# Altium footprint library WISP_AD10.PcbLib: 95 footprints (part 4 of 6)
Each footprint in its own frame and in the unit in brackets; x right, y up, seen from the top. Pads: shape width x height; smd on the part's side, far side on the other; paste and mask are expansions set on the pad; w line width, h text height; cw(c..) or ccw(c..) is an arc to the next point about the centre after c.
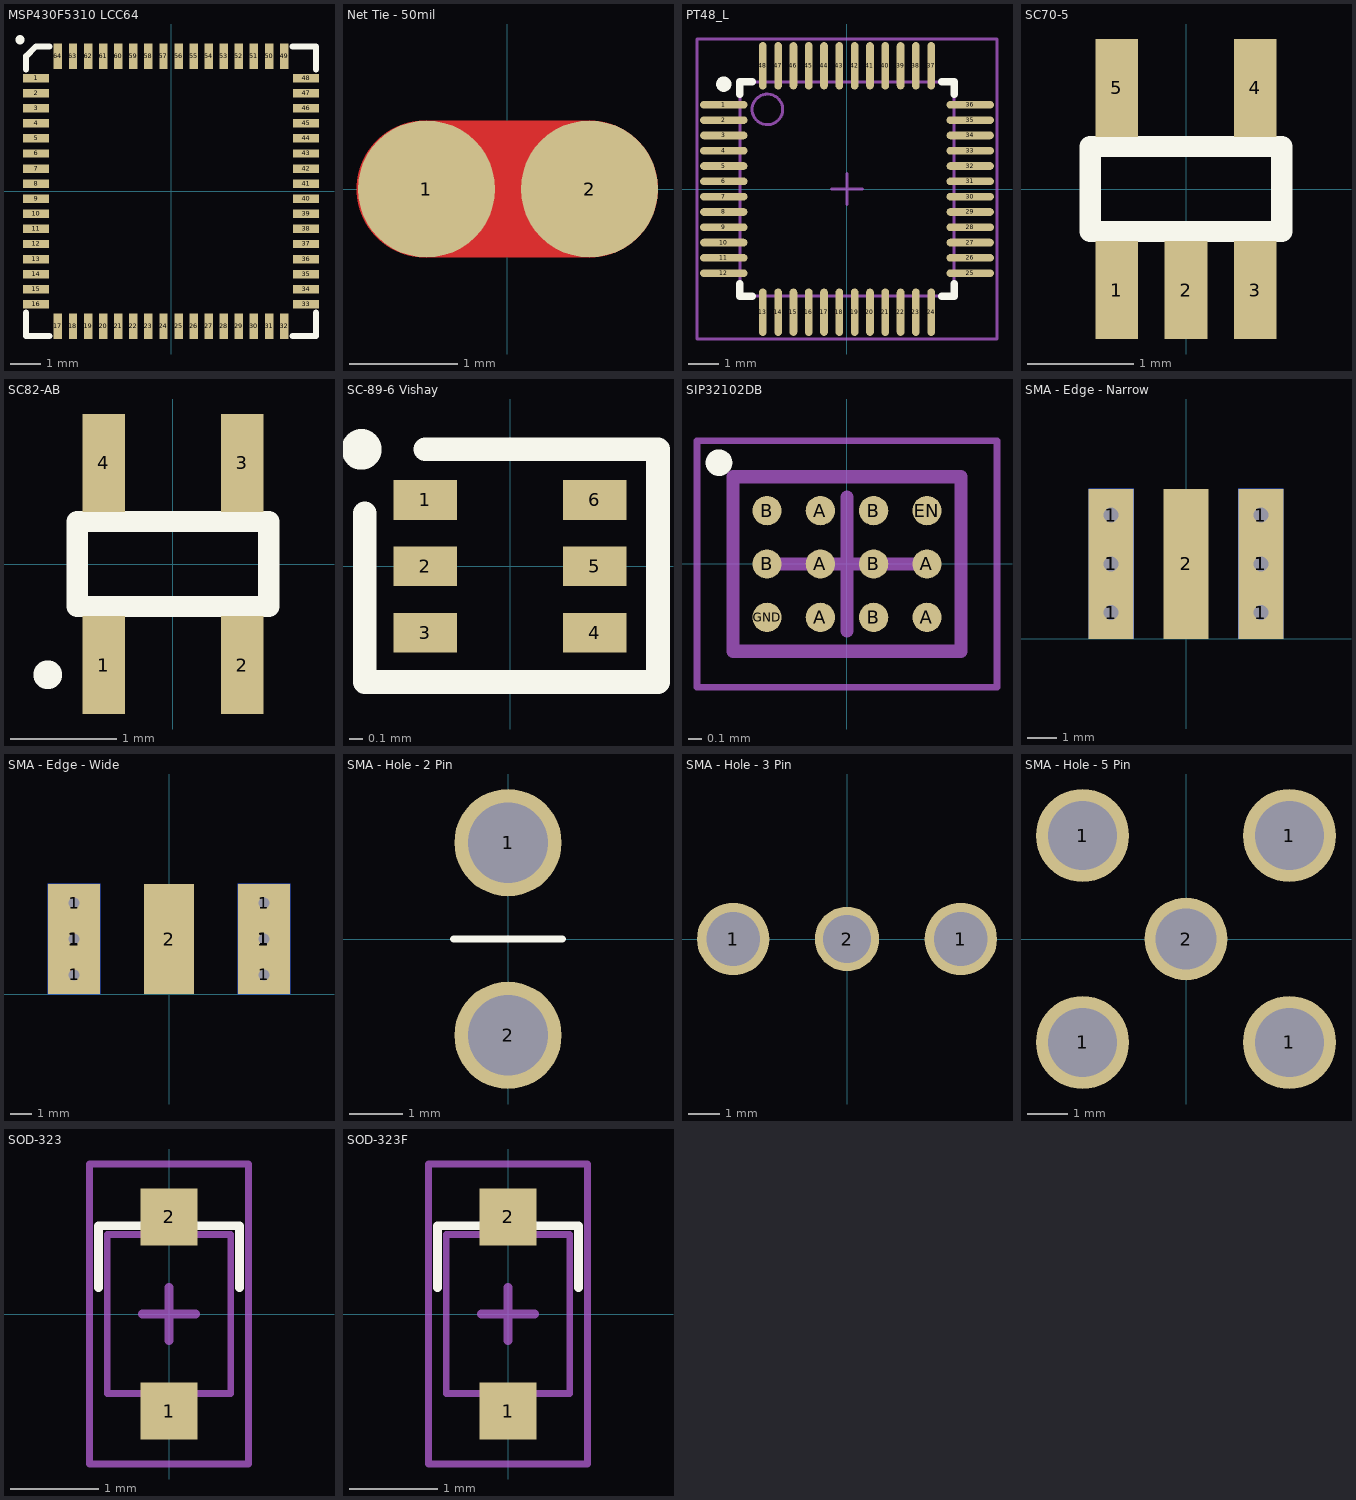
[diagram p3: the footprints below, top view; thin cyan lines are the x and y axes]

## MSP430F5310 LCC64 [mm]
pads (64):
  rect 0.85x0.28 smd: 1(-4.475,3.75) 2(-4.475,3.25) 3(-4.475,2.75) 4(-4.475,2.25) 5(-4.475,1.75) 6(-4.475,1.25) 7(-4.475,0.75) 8(-4.475,0.25) 9(-4.475,-0.25) 10(-4.475,-0.75) 11(-4.475,-1.25) 12(-4.475,-1.75) 13(-4.475,-2.25) 14(-4.475,-2.75) 15(-4.475,-3.25) 16(-4.475,-3.75) 33(4.475,-3.75) 34(4.475,-3.25) 35(4.475,-2.75) 36(4.475,-2.25) 37(4.475,-1.75) 38(4.475,-1.25) 39(4.475,-0.75) 40(4.475,-0.25) 41(4.475,0.25) 42(4.475,0.75) 43(4.475,1.25) 44(4.475,1.75) 45(4.475,2.25) 46(4.475,2.75) 47(4.475,3.25) 48(4.475,3.75)
  rect 0.28x0.85 smd: 17(-3.75,-4.475) 18(-3.25,-4.475) 19(-2.75,-4.475) 20(-2.25,-4.475) 21(-1.75,-4.475) 22(-1.25,-4.475) 23(-0.75,-4.475) 24(-0.25,-4.475) 25(0.25,-4.475) 26(0.75,-4.475) 27(1.25,-4.475) 28(1.75,-4.475) 29(2.25,-4.475) 30(2.75,-4.475) 31(3.25,-4.475) 32(3.75,-4.475) 49(3.75,4.475) 50(3.25,4.475) 51(2.75,4.475) 52(2.25,4.475) 53(1.75,4.475) 54(1.25,4.475) 55(0.75,4.475) 56(0.25,4.475) 57(-0.25,4.475) 58(-0.75,4.475) 59(-1.25,4.475) 60(-1.75,4.475) 61(-2.25,4.475) 62(-2.75,4.475) 63(-3.25,4.475) 64(-3.75,4.475)
Top Overlay:
  circle w0.254: c-5.008,5.02 r0.025
  lines w0.2: -4.8,-4.03 -4.8,-4.8 -4.03,-4.8 ; -4.8,4.03 -4.8,4.475 -4.475,4.8 -4.03,4.8 ; 4.03,-4.8 4.8,-4.8 4.8,-4.03 ; 4.03,4.8 4.8,4.8 4.8,4.03
3D body: height 1, standoff 0, extent -4.375,-4.35 4.425,4.35

## Net Tie - 50mil [mm] "Net Tie is used to connect two differnt nets together"
pads (2):
  round 1.27 smd: 1(-0.75,0) 2(0.762,0)
Top Layer:
  lines w1.27: -0.762,0 0.762,0

## PCBComponent_1 [mm]

## PCBComponent_1 - duplicate [mm]

## PT48_L [mm] "Thin QFP, 48-Leads, Body 7x7mm, Pitch 0.5mm, IPC High Density"
height 1.6
pads (48):
  oval 1.55x0.25 smd: 1(-4.025,2.75) 2(-4.025,2.25) 3(-4.025,1.75) 4(-4.025,1.25) 5(-4.025,0.75) 6(-4.025,0.25) 7(-4.025,-0.25) 8(-4.025,-0.75) 9(-4.025,-1.25) 10(-4.025,-1.75) 11(-4.025,-2.25) 12(-4.025,-2.75) 25(4.025,-2.75) 26(4.025,-2.25) 27(4.025,-1.75) 28(4.025,-1.25) 29(4.025,-0.75) 30(4.025,-0.25) 31(4.025,0.25) 32(4.025,0.75) 33(4.025,1.25) 34(4.025,1.75) 35(4.025,2.25) 36(4.025,2.75)
  oval 0.25x1.55 smd: 13(-2.75,-4.025) 14(-2.25,-4.025) 15(-1.75,-4.025) 16(-1.25,-4.025) 17(-0.75,-4.025) 18(-0.25,-4.025) 19(0.25,-4.025) 20(0.75,-4.025) 21(1.25,-4.025) 22(1.75,-4.025) 23(2.25,-4.025) 24(2.75,-4.025) 37(2.75,4.025) 38(2.25,4.025) 39(1.75,4.025) 40(1.25,4.025) 41(0.75,4.025) 42(0.25,4.025) 43(-0.25,4.025) 44(-0.75,4.025) 45(-1.25,4.025) 46(-1.75,4.025) 47(-2.25,4.025) 48(-2.75,4.025)
Top Overlay:
  circle w0.25: c-4.025,3.425 r0.125
  lines w0.254: -3.5,-3.1 -3.5,-3.5 -3.1,-3.5 ; -3.5,3.1 -3.5,3.5 -3.1,3.5 ; 3.1,-3.5 3.5,-3.5 3.5,-3.1 ; 3.1,3.5 3.5,3.5 3.5,3.1
Mechanical 13:
  circle w0.1: c-2.6,2.6 r0.5
  lines w0.1: -3.5,-3.5 3.5,-3.5 3.5,3.5 -3.5,3.5 -3.5,-3.5
Mechanical 15:
  lines w0.1: -0.5,0 0.5,0 ; 0,-0.5 0,0.5 ; -4.9,-4.9 4.9,-4.9 4.9,4.9 -4.9,4.9 -4.9,-4.9
3D body: height 1.6, standoff 0, extent -3.5,-3.5 3.5,3.5

## SC70-5 [mm] "SC70-5"
height 1.1
pads (5):
  rect 0.4x0.92 smd: 1(-0.65,-0.95) 2(0,-0.95) 3(0.65,-0.95) 4(0.65,0.95) 5(-0.65,0.95)
Top Overlay:
  lines w0.2: -0.9,-0.4 0.9,-0.4 0.9,0.4 -0.9,0.4 -0.9,-0.4
Mechanical 13:
  circle w0.1: c-0.65,-0.95 r0.036
  lines w0.1: -0.9,-0.4 -0.9,0.4 0.9,0.4 0.9,-0.4 -0.9,-0.4
  text ".Designator" at -0.686,-0.152 h0.38
3D body: height 1.1, standoff 0, extent -0.9,-0.4 0.9,0.4

## SC82-AB [mm]
pads (4):
  rect 0.4x0.92 smd: 1(-0.65,-0.95) 2(0.65,-0.95) 3(0.65,0.95) 4(-0.65,0.95)
Top Overlay:
  circle w0.254: c-1.176,-1.041 r0.008
  lines w0.2: -0.9,-0.4 0.9,-0.4 0.9,0.4 -0.9,0.4 -0.9,-0.4

## SC-89-6 Vishay [mm]
pads (6):
  rect 0.478x0.3 smd: 1(-0.638,0.5) 2(-0.638,0) 3(-0.638,-0.5) 4(0.638,-0.5) 5(0.638,0) 6(0.638,0.5)
Top Overlay:
  circle w0.254: c-1.121,0.881 r0.025
  lines w0.178: -1.095,0.398 -1.095,-0.872 1.115,-0.872 1.115,0.881 -0.638,0.881

## SIP32102DB [mm] "WCSP-12(BGA), 12-Leads, Body 1.71x1.31mmx0.55mm, Pitch 0.40mm"
height 0.55
pads (12):
  round 0.22 smd: A(-0.2,-0.4) A(-0.2,0) A(-0.2,0.4) A(0.6,-0.4) A(0.6,0) B(-0.6,0) B(-0.6,0.4) B(0.2,-0.4) B(0.2,0) B(0.2,0.4) EN(0.6,0.4) GND(-0.6,-0.4)
Top Overlay:
  circle w0.1: c-0.96,0.76 r0.05
Mechanical 13:
  lines w0.1: -0.855,-0.655 0.855,-0.655 0.855,0.655 -0.855,0.655 -0.855,-0.655
  text ".designator" at -0.625,-0.05 h0.52
Mechanical 15:
  lines w0.05: -1.125,-0.925 1.125,-0.925 1.125,0.925 -1.125,0.925 -1.125,-0.925
  lines w0.1: -0.5,0 0.5,0 ; 0,-0.5 0,0.5
3D body: height 0.55, standoff 0.18, extent -0.855,-0.655 0.855,0.655

## SMA - Edge - Narrow [mil] "SMA - Board Edge Connector, Narrow body = 0.25in"
height 5
pads (11):
  round 38 hole 20: 1(-100,35) 1(-100,100) 1(-100,165) 1(100,35) 1(100,100) 1(100,165)
  rect 60x200 smd: 1(-100,100) 1(100,100) 2(0,100)
  rect 60x200 smd far side: 1(-100,100) 1(100,100)
3D body: height 150.2, standoff -99.8, extent -125,-377.95 125,146.85

## SMA - Edge - Wide [mil] "SMA - Board Edge Connector, Wide Body = .375in, no gnd pad"
height 5
pads (11):
  round 38 hole 20: 1(-172.5,35) 1(-172.5,100) 1(-172.5,165) 1(172.5,35) 1(172.5,100) 1(172.5,165)
  rect 95x200 smd: 1(-172.5,100) 1(172.5,100)
  rect 95x200 smd far side: 1(-172.5,100) 1(172.5,100)
  rect 90x200 smd: 2(0,100)

## SMA - Hole - 2 Pin [mm] "SMA port for wisp"
pads (2):
  round 2 hole 1.5: 1(0,1.796) 2(0,-1.796)
Top Overlay:
  lines w0.127: -1.016,0 1.016,0

## SMA - Hole - 3 Pin [mil] "SMA Through Hole Connector 3 pins"
pads (3):
  round 90 hole 67: 1(-141.42,0) 1(141.42,0)
  round 80 hole 59.06: 2(0,0)

## SMA - Hole - 5 Pin [mil] "SMA Through Hole Connector"
pads (5):
  round 90 hole 67: 1(-100,-100) 1(-100,100) 1(100,-100) 1(100,100)
  round 80 hole 59.06: 2(0,0)

## SOD-323 [mm] "SOD-322 Footprint"
height 1
pads (2):
  rect 0.65x0.65 smd: 1(0,-1.1) 2(0,1.1)
Top Overlay:
  lines w0.1: -0.8,0.3 -0.8,1 0.8,1 0.8,0.3
Mechanical 13:
  lines w0.076: -0.7,-0.9 -0.7,0.9 0.7,0.9 0.7,-0.9 -0.7,-0.9
  text ".Designator" at -0.254,0.762 h0.51
Mechanical 15:
  lines w0.076: -0.9,-1.7 -0.9,1.7 0.9,1.7 0.9,-1.7 -0.9,-1.7
  lines w0.1: -0.3,0 0.3,0 ; 0,-0.3 0,0.3
3D body: height 1, standoff 0, extent -0.7,-0.9 0.7,0.9

## SOD-323F [mm] "SOD-323 SC-90 Footprint"
height 1
pads (2):
  rect 0.65x0.65 smd: 1(0,-1.1) 2(0,1.1)
Top Overlay:
  lines w0.1: -0.8,0.3 -0.8,1 0.8,1 0.8,0.3
Mechanical 13:
  lines w0.076: -0.7,-0.9 0.7,-0.9 0.7,0.9 -0.7,0.9 -0.7,-0.9
  text ".Designator" at -0.254,0.762 h0.51
Mechanical 15:
  lines w0.076: -0.9,-1.7 0.9,-1.7 0.9,1.7 -0.9,1.7 -0.9,-1.7
  lines w0.1: -0.3,0 0.3,0 ; 0,-0.3 0,0.3
3D body: height 1, standoff 0, extent -0.7,-0.9 0.7,0.9